# EAGLE library part BSA223SP (library irf)
OptiMOS(R)-P Small-Signal-Transistor P-Channel, Enhancement mode, Super Logic Level (2.5 V rated) Source: http://www.infineon.com/upload/Document/BSA223SP_Rev1.3.pdf
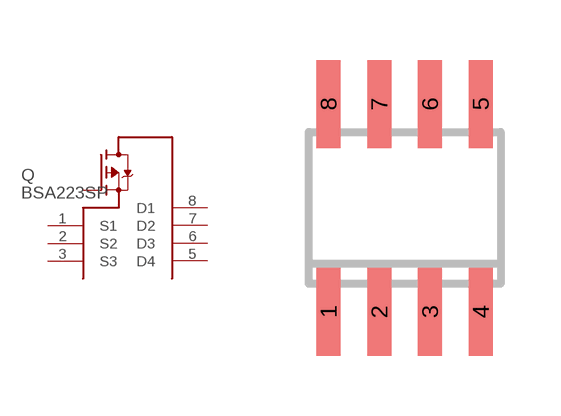
[diagram p0: symbol with the pads of SO8; footprint SO8]

Designator prefix Q

## BSA223SP  [SO8]
1  S1
2  S2
3  S3
4  G  pas
5  D4
6  D3
7  D2
8  D1

## Footprint SO8 (pad centres in mm)
SMALL OUTLINE INTEGRATED CIRCUIT
smd 0.6 x 2.2: 1 -1.905,-2.6; 2 -0.635,-2.6; 3 0.635,-2.6; 4 1.905,-2.6; 5 1.905,2.6; 6 0.635,2.6; 7 -0.635,2.6; 8 -1.905,2.6